# Altium schematic symbol library MS IMP Library.SchLib: 375 symbols (part 7 of 9)
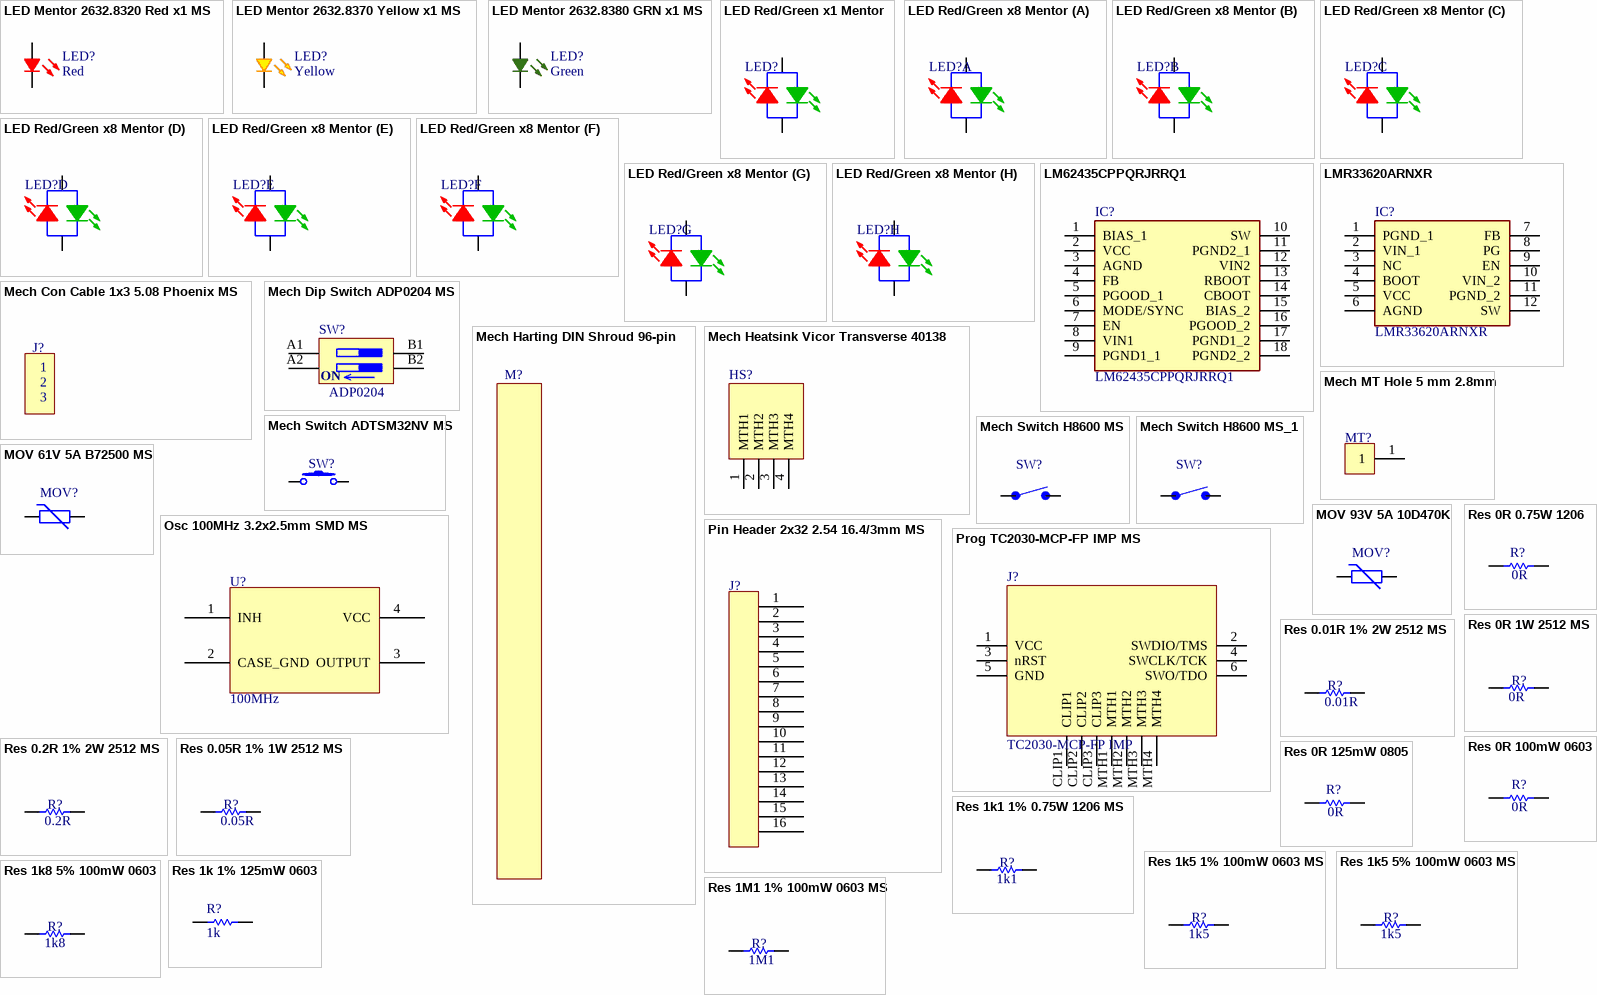
[diagram p28: symbols LED Mentor 2632.8320 Red x1 MS to Res 1M1 1% 100mW 0603 MS]

## Mech Harting DIN Shroud 96-pin
designator M?, comment SHROUD SCREW FIX  (value not drawn)
CONN SHROUD DIN 41612 96POS; Manufacturer: Harting; Manufacturer Part Number: 09030009966; Production Status: Active; Distributor: Mouser; Distributor Part Number: 617-09030009966; Last Revision Date: 22.07.2021; Mounting: Shroud; ComponentLink1Description: Datasheet; ComponentLink1URL: https://b2b.harting.com/files/download/PRD/PDF_TS/0903000996X_100077234DRW002C.pdf?autoLogoutEnabled=false&autoLogoutTime=0&siteName=Ebusiness+Site&showPrivacyEmailAgreement=false&contextURL=https%3A%2F%2Fb2b.harting.com%2Febusiness%2Fen; ComponentLink2Description: Distributor; ComponentLink2URL: https://eu.mouser.com/ProductDetail/HARTING/09030009966?qs=%2Fha2pyFaduhRuGc76G%252Bu3ocXX1sj6hY%2Ff0d6GCPp7gp401P9WS5tKQ%3D%3D; ComponentLink3Description: Manufacturer; ComponentLink3URL: https://b2b.harting.com/ebusiness/en/DIN-Signal-C-R-shroud-screw-fix-6-70/09030009966; Status: Not Checked; DB Parameter 1: 09030009966
footprint HARTING_09030009966

## Mech Heatsink Vicor Transverse 40138
designator HS?, comment Heatsink  (value not drawn)
Heatsink Vicor Transverse 40138; Manufacturer Part Number: 40138; Thermal I/F: Yes; DB Parameter 3: PE tab; Production Status: Active; Distributor: Vicor; Distributor Part Number: 40138; Manufacturer: Vicor; Last Revision Date: 21.04.2021; Mounting: Heatsink; ComponentLink1Description: Datasheet; ComponentLink1URL: http://asp.vicorpower.com/CADPDF/6DDKOI.PDF; ComponentLink2Description: Distributor; ComponentLink2URL: http://www.vicorpower.com/products?productType=cfg&productKey=DCM2322T50T1760T60; ComponentLink3Description: Manufacturer; ComponentLink3URL: http://www.vicorpower.com/products?productType=cfg&productKey=DCM2322T50T1760T60; Status: Not Checked; Fins Direction: Transverse; DB Parameter 1: 40138; DB Parameter 2: Transverse
footprint Heatsink VICOR Tranverse Grounding Tabs Thermal 40138
pins: 1 MTH1, 2 MTH2, 3 MTH3, 4 MTH4

## Mech MT Hole 5 mm 2.8mm
designator MT?, comment MT Hole  (value not drawn)
MT Hole 5 mm 2.8mm; Last Revision Date: 18.07.2022; Mounting: TH; ComponentLink1Description: Datasheet; ComponentLink2Description: Distributor; ComponentLink3Description: Manufacturer
footprint MT_Hole_5mm_2.8mm
pins: 1

## Mech Switch ADTSM32NV MS
designator SW?, comment Tactile Switch  (value not drawn)
Tactile Switch SPST 0.05A 12VDC; Manufacturer: Apem; Manufacturer Part Number: ADTSM32NV; DB Parameter 3: 160gf; Production Status: Active; Distributor: Mouser; Distributor Part Number: 642-ADTSM32NV; Last Revision Date: 08.06.2021; Mounting: SMD; ComponentLink1Description: Datasheet; ComponentLink1URL: https://eu.mouser.com/datasheet/2/26/apem_appms00429_1-1990767.pdf; ComponentLink2Description: Distributor; ComponentLink2URL: https://eu.mouser.com/ProductDetail/Apem/ADTSM32NV/?qs=iGLABakYCr87MRca7foRyA==; ComponentLink3Description: Manufacturer; Status: Not Checked; Rated Current: 0.05A; Rated Voltage: 12VDC; DB Parameter 1: 0.05A; DB Parameter 2: 12VDC; Operating Force: 160gf
footprint ADTSM3 MS
pins: 1, 2

## Mech Switch H8600 MS
designator SW?, comment Switch  (value not drawn)
Rocker Switch 10A 250V; Manufacturer: Bulgin; Manufacturer Part Number: H8600VB01; Production Status: Active; Distributor: Schukat; Distributor Part Number: E2112 H8600VB01; Last Revision Date: 17.03.2021; Mounting: Panel mount; ComponentLink1Description: Datasheet; ComponentLink1URL: https://www.schukat.com/schukat/schukat_cms_en.nsf/index/FrameView?OpenDocument&art=H8600VB01&wg=E2112; ComponentLink2Description: Distributor; ComponentLink2URL: https://www.schukat.com/schukat/schukat_cms_en.nsf/index/CMSDF15D356B046D53BC1256D550038A9E0?OpenDocument&wg=E2112; ComponentLink3Description: Manufacturer; ComponentLink3URL: https://www.schukat.com/schukat/schukat_cms_en.nsf/index/FrameView?OpenDocument&art=H8600VB01&wg=E2112; Status: Not Checked; Rated Current: 10A; Rated Voltage: 250V; DB Parameter 1: 10A; DB Parameter 2: 250V
footprint SWITCH_HOLES
pins: 1, 2

## Mech Switch H8600 MS_1
designator SW?, comment Switch  (value not drawn)
Rocker Switch 10A 250V; Manufacturer: Bulgin; Manufacturer Part Number: H8600VB01; Production Status: Active; Distributor: Schukat; Distributor Part Number: E2112 H8600VB01; Last Revision Date: 17.03.2021; Mounting: Panel mount; ComponentLink1Description: Datasheet; ComponentLink1URL: https://www.schukat.com/schukat/schukat_cms_en.nsf/index/FrameView?OpenDocument&art=H8600VB01&wg=E2112; ComponentLink2Description: Distributor; ComponentLink2URL: https://www.schukat.com/schukat/schukat_cms_en.nsf/index/CMSDF15D356B046D53BC1256D550038A9E0?OpenDocument&wg=E2112; ComponentLink3Description: Manufacturer; ComponentLink3URL: https://www.schukat.com/schukat/schukat_cms_en.nsf/index/FrameView?OpenDocument&art=H8600VB01&wg=E2112; Status: Not Checked; Rated Current: 10A; Rated Voltage: 250V; DB Parameter 1: 10A; DB Parameter 2: 250V
footprint SWITCH_HOLES
pins: 1, 2

## MOV 61V 5A B72500 MS
designator MOV?, comment Varistor  (value not drawn)
VARISTOR 61V 5A 0603; Manufacturer: EPCOS - TDK Electronics; Manufacturer Part Number: B72500E8250L060; Production status: Active; Maximum DC Continuous Voltage: 32V; Distributor: Digi-Key; Distributor Part Number: 495-4605-1-ND; Last Revision Date: 08.07.2021; Temperature Range: -55°C ~ +150°C; Mounting: SMD; ComponentLink1Description: Datasheet; ComponentLink1URL: https://www.tdk-electronics.tdk.com/inf/75/db/CTVS_14/High_speed_series.pdf; ComponentLink2Description: Distributor; ComponentLink2URL: https://www.digikey.com/en/products/detail/epcos-tdk-electronics/B72500E8250L060/3736475; ComponentLink3Description: Manufacturer; ComponentLink3URL: https://www.tdk-electronics.tdk.com/en/529944/products/product-catalog/protection-devices/voltage-protection/ceramic-transient-voltage-suppressors-mlv-varistors-epcos-/search-results-ceramic-transient-voltage-suppressors-mlv-var?so=%7B%22orderingCode%22%3A%22B72500E8250L060%22%7D; Status: Not Checked; Clamping Voltage: 61V; DB Parameter 1: 61V; DB Parameter 2: 5A; Current Class: 5A
footprint C0603L 0.8 MM MS (Chip Capacitor, Body 1.6x0.8mm, IPC High Density)
pins: 1, 2

## MOV 93V 5A 10D470K
designator MOV?, comment Varistor  (value not drawn)
Varistor 93V 5A DISC 10MM; Manufacturer: Bourns Inc.; Manufacturer Part Number: MOV-10D470KTR; Rated Energy: 5.5J; DB Parameter 3: 500A; Production status: Active; Maximum DC Continuous Voltage: 38V; Distributor: Digi-Key; Distributor Part Number: MOV-10D470KTRCT-ND; Last Revision Date: 05.02.2021; Temperature Range: -55°C ~ +105°C; Mounting: TH; ComponentLink1Description: Datasheet; ComponentLink1URL: https://www.bourns.com/docs/Product-Datasheets/MOV10D.pdf; ComponentLink2Description: Distributor; ComponentLink2URL: https://www.digikey.com/en/products/detail/bourns-inc/mov-10d470ktr/2407607; ComponentLink3Description: Manufacturer; ComponentLink3URL: https://www.bourns.com/docs/product-datasheets/mov10d.pdf?sfvrsn=b57e8a7f_26; Status: Not Checked; Clamping Voltage: 93V; DB Parameter 1: 93V; DB Parameter 2: 5A; Max Peak Current 8/20us: 500A; Current Class: 5A
footprint MOV10D470K
pins: 1, 2

## Osc 100MHz 3.2x2.5mm SMD MS
designator U?, comment 100MHz
Clock Oscillator 100MHz SMD; Manufacturer: Kyocera Electronic Components; Manufacturer Part Number: KC3225A100.000C30E00; Supply Voltage: 3.3V; Temperature Coefficient: ±100ppm/°C; Frequency Stability: 50ppm; Production Status: Active; Distributor: Mouser; Distributor Part Number: 581-KC3225A100C30E; Last Revision Date: 01.11.2020; Temperature Range: -10°C ~ +70°C; Mounting: SMD; ComponentLink1Description: Datasheet; ComponentLink1URL: https://eu.mouser.com/datasheet/2/909/kc3225a_c3_e-1771780.pdf; ComponentLink2Description: Distributor; ComponentLink2URL: https://eu.mouser.com/ProductDetail/Kyocera-Electronic-Components/KC3225A100000C30E00?qs=%2Fha2pyFadujxcwsrG%252BwLbcFeWOKdxza2z1CZ8zj9CqGOz41bMRkRIb2jydKHQAcZ; ComponentLink3Description: Manufacturer; ComponentLink3URL: https://global.kyocera.com/prdct/electro/product/pdf/kc3225a_c3_e.pdf; Status: Not Checked; DB Parameter 1: 100MHz; DB Parameter 2: 3.3V; DB Parameter 3: 50ppm; Frequency: 100MHz
footprint KC3225A MS
pins: 1 INH, 2 CASE_GND, 3 OUTPUT, 4 VCC

## Pin Header 2x32 2.54 16.4/3mm MS
designator J?, comment Header Male TH 2x32  (value not drawn)
Pin Header 2x32 2.54 16.4/3mm; Manufacturer: Fischer Elektronik; Manufacturer Part Number: SL 22 164 64 G0878321420; Rated Current: 2A; DB Parameter 1: SL 22 164 64 G; DB Parameter 2: 3A; Production Status: Active; Distributor: Fischer Elektronik; Distributor Part Number: SL 22 164 64 G; Last Revision Date: 26.11.2020.; Temperature Range: -40°C ~ +163°C; Mounting: TH; ComponentLink1Description: Datasheet; ComponentLink1URL: https://www.fischerelektronik.de/web_fischer/en_GB/connectors/G01/Male%20headers/PR/SL%2022%20164/index.xhtml; ComponentLink2Description: Distributor; ComponentLink2URL: https://www.fischerelektronik.de/web_fischer/en_GB/connectors/G01/Male%20headers/PR/SL%2022%20164/index.xhtml; ComponentLink3Description: Manufacturer; ComponentLink3URL: https://www.fischerelektronik.de/web_fischer/en_GB/connectors/G01/Male%20headers/PR/SL%2022%20164/index.xhtml; Status: Not Checked
footprint MOLEX_0878321420
pins: 1, 2, 3, 4, 5, 6, 7, 8, 9, 10, 11, 12, 13, 14, 15, 16

## Prog TC2030-MCP-FP IMP MS
designator J?, comment TC2030-MCP-FP IMP
PCB DECAL: TC2030-MCP-FP
footprint TC2030-MCP-FP MS
pins: 1 VCC, 2 SWDIO/TMS, 3 nRST, 4 SWCLK/TCK, 5 GND, 6 SWO/TDO, CLIP1, CLIP2, CLIP3, MTH1, MTH2, MTH3, MTH4

## Res 0.01R 1% 2W 2512 MS
designator R?, comment Resistance: 0.01R  (hidden comment: Resistor)
Resistor 0.01R 1% 2W 2512; Manufacturer: Yageo; Manufacturer Part Number: PE2512FKF7W0R01L; Temperature Coefficient: ±100ppm/°C; Production Status: Active; Distributor: Digi-Key; Distributor Part Number: YAG6033CT-ND; Last Revision Date: 25.03.2021; Temperature Range: -55°C ~ +170°C; Mounting: SMD; ComponentLink1Description: Datasheet; ComponentLink1URL: https://www.yageo.com/upload/media/product/productsearch/datasheet/rchip/PYu-PE_521_RoHS_L_8.pdf; ComponentLink2Description: Distributor; ComponentLink2URL: https://www.digikey.com/en/products/detail/yageo/PE2512FKF7W0R01L/5914917; ComponentLink3Description: Manufacturer; ComponentLink3URL: https://www.yageo.com/en/ProductSearch/PartNumberSearch?part_number=PE2512FKF7W0R01L; Status: Not Checked; Power Rating: 2W; Tolerance: ±1%; DB Parameter 1: 0.01R; DB Parameter 2: ±1%; DB Parameter 3: 2W
footprint 2512 R 0.7mm MS
pins: 1, 2

## Res 0.2R 1% 2W 2512 MS
designator R?, comment Resistance: 0.2R  (hidden comment: Resistor)
Resistor 0.2R 1% 2W 2512; Manufacturer: Vishay Dale; Manufacturer Part Number: RCWE2512R200FKEA; Temperature Coefficient: ±100ppm/°C; Production Status: Active; Distributor: Digi-Key; Distributor Part Number: 541-4398-1-ND; Last Revision Date: 14.09.2021; Temperature Range: -55°C ~ +155°C; Mounting: SMD; ComponentLink1Description: Datasheet; ComponentLink1URL: https://www.vishay.com/docs/20019/rcwe.pdf; ComponentLink2Description: Distributor; ComponentLink2URL: https://www.digikey.com/en/products/detail/vishay-dale/RCWE2512R200FKEA/5767489; ComponentLink3Description: Manufacturer; ComponentLink3URL: https://www.vishay.com/docs/20019/rcwe.pdf; Status: Not Checked; Power Rating: 2W; Tolerance: ±1%; DB Parameter 1: 0.2R; DB Parameter 2: ±1%; DB Parameter 3: 2W
footprint 2512 R 0.7mm MS
pins: 1, 2

## Res 0.05R 1% 1W 2512 MS
designator R?, comment Resistance: 0.05R  (hidden comment: Resistor)
Resistor 0.05R 1% 1W 2512; Manufacturer: Yageo; Manufacturer Part Number: RL2512FK-070R05L; Temperature Coefficient: ±800ppm/°C; Production Status: Active; Distributor: Digi-Key; Distributor Part Number: 311-0.05TCT-ND; Last Revision Date: 17.03.2021; Temperature Range: -55°C ~ +155°C; Mounting: SMD; ComponentLink1Description: Datasheet; ComponentLink1URL: https://www.yageo.com/upload/media/product/productsearch/datasheet/rchip/PYu-RL_Group_521_RoHS_L_2.pdf; ComponentLink2Description: Distributor; ComponentLink2URL: https://www.digikey.com/en/products/detail/yageo/RL2512FK-070R05L/3885862?s=N4IgTCBcDaIEoBkwFYCMYBiBpAtABgHY849kEQBdAXyA; ComponentLink3Description: Manufacturer; ComponentLink3URL: https://www.yageo.com/en/ProductSearch/PartNumberSearch?part_number=RL2512FK-070R05L; Status: Not Checked; Power Rating: 1W; Tolerance: ±1%; DB Parameter 1: 0.05R; DB Parameter 2: ±1%; DB Parameter 3: 1W
footprint 2512 R 0.7mm MS
pins: 1, 2

## Res 0R 0.75W 1206
designator R?, comment Resistance: 0R  (hidden comment: Resistor)
Resistor 0R 0.75W 1206; Manufacturer: Vishay Dale; Manufacturer Part Number: CRCW12060000Z0EAHP; DB Parameter 2: 10A; Production Status: Active; Distributor: Digi-Key; Distributor Part Number: 541-0.0UBCT-ND; Last Revision Date: 26.03.2021; Temperature Range: -55°C ~ +155°C; Mounting: SMD; ComponentLink1Description: Datasheet; ComponentLink1URL: https://www.vishay.com/docs/20043/crcwhpe3.pdf; ComponentLink2Description: Distributor; ComponentLink2URL: https://www.digikey.com/en/products/detail/vishay-dale/CRCW12060000Z0EAHP/2222404; ComponentLink3Description: Manufacturer; ComponentLink3URL: https://www.vishay.com/docs/20043/crcwhpe3.pdf; Status: Not Checked; Power Rating: 0.75W; DB Parameter 1: 0R; DB Parameter 3: 0.75W; Maximum Current: 10A
footprint 1206 R 0.6mm MS (Ceramic Capacitor 1206 0.6mm)
pins: 1, 2

## Res 0R 1W 2512 MS
designator R?, comment Resistance: 0R  (hidden comment: Resistor)
Resistor 0R 1W 2512; Manufacturer: Bourns Inc.; Manufacturer Part Number: CR2512-J/-000ELF; DB Parameter 2: 2A; Production Status: Active; Maximum Current: 5A; Distributor: Digi-Key; Distributor Part Number: CR2512-J/-000ELFCT-ND; Last Revision Date: 02.04.2021; Temperature Range: -55°C ~ +155°C; Mounting: SMD; ComponentLink1Description: Datasheet; ComponentLink1URL: https://www.bourns.com/docs/product-datasheets/CRxxxxx.pdf; ComponentLink2Description: Distributor; ComponentLink2URL: https://www.digikey.com/en/products/detail/bourns-inc/CR2512-J-000ELF/2345096; ComponentLink3Description: Manufacturer; ComponentLink3URL: https://www.bourns.com/docs/product-datasheets/CRxxxxx.pdf; Status: Not Checked; Power Rating: 1W; DB Parameter 1: 0R; DB Parameter 3: 1W; Rated Current: 2A
footprint 2512 R 0.7mm MS
pins: 1, 2

## Res 0R 100mW 0603
designator R?, comment Resistance: 0R  (hidden comment: Resistor)
Resistor  0R 100mW 0603; Manufacturer: Stackpole Electronics Inc; Manufacturer Part Number: RMCF0603ZT0R00; DB Parameter 2: 1A; Production Status: Active; Maximum Current: 2A; Distributor: Digi-Key; Distributor Part Number: RMCF0603ZT0R00CT-ND; Last Revision Date: 20.10.2020.; Temperature Range: -55°C ~ +155°C; Mounting: SMD; ComponentLink1Description: Datasheet; ComponentLink1URL: https://www.seielect.com/catalog/sei-rmcf_rmcp.pdf; ComponentLink2Description: Distributor; ComponentLink2URL: https://www.digikey.com/en/products/detail/stackpole-electronics-inc/RMCF0603ZT0R00/1756908; ComponentLink3Description: Manufacturer; ComponentLink3URL: https://www.seielect.com/; Status: Not Checked; Power Rating: 100mW; DB Parameter 1: 0R; DB Parameter 3: 100mW; Rated Current: 1A
footprint R0603L 0.45MM MS (Chip Resistor, Body 1.6x0.8mm, IPC High Density)
pins: 1, 2

## Res 0R 125mW 0805
designator R?, comment Resistance: 0R  (hidden comment: Resistor)
Resistor  0R 125mW 0805; Manufacturer: Yageo; Manufacturer Part Number: RC0805JR-070RL; DB Parameter 2: 2A; Production Status: Active; Maximum Current: 5A; Distributor: Digi-Key; Distributor Part Number: 311-0.0ARCT-ND; Last Revision Date: 19.10.2020.; Temperature Range: -55°C ~ +155°C; Mounting: SMD; ComponentLink1Description: Datasheet; ComponentLink1URL: https://www.yageo.com/upload/media/product/productsearch/datasheet/rchip/PYu-RC_Group_51_RoHS_L_11.pdf; ComponentLink2Description: Distributor; ComponentLink2URL: https://www.digikey.com/en/products/detail/yageo/RC0805JR-070RL/731163; ComponentLink3Description: Manufacturer; ComponentLink3URL: https://www.yageo.com/en/ProductSearch/PartNumberSearch?part_number=RC0805JR-070RL; Status: Not Checked; Power Rating: 125mW; DB Parameter 1: 0R; DB Parameter 3: 125mW; Rated Current: 2A
footprint 0805 R 0.5mm MS (Resistor 0805 0.5mm)
pins: 1, 2

## Res 1k1 1% 0.75W 1206 MS
designator R?, comment Resistance: 1k1  (hidden comment: Resistor)
Resistor 1k1 1% 0.75W 1206; Manufacturer: Vishay Dale; Manufacturer Part Number: CRCW12061K10FKEAHP; Temperature Coefficient: ±100ppm/°C; Production Status: Active; Distributor: Digi-Key; Distributor Part Number: CRCW12061K10FKEAHPCT-ND; Last Revision Date: 17.06.2021; Temperature Range: -55°C ~ +155°C; Mounting: SMD; ComponentLink1Description: Datasheet; ComponentLink1URL: https://www.vishay.com/docs/20043/crcwhpe3.pdf; ComponentLink2Description: Distributor; ComponentLink2URL: https://www.digikey.com/en/products/detail/vishay-dale/CRCW12061K10FKEAHP/2227755; ComponentLink3Description: Manufacturer; ComponentLink3URL: https://www.vishay.com/docs/20043/crcwhpe3.pdf; Status: Not Checked; Power Rating: 0.75W; Tolerance: ±1%; DB Parameter 1: 1k1; DB Parameter 2: ±1%; DB Parameter 3: 0.75W
footprint 1206 R 0.6mm MS (Ceramic Capacitor 1206 0.55mm)
pins: 1, 2

## Res 1k5 1% 100mW 0603 MS
designator R?, comment Resistance: 1k5  (hidden comment: Resistor)
Resistor 1k5 1% 100mW 0603; Manufacturer: Vishay Dale; Manufacturer Part Number: CRCW06031K50FKEAC; Temperature Coefficient: ±100ppm/°C; Production Status: Active; Distributor: Digi-Key; Distributor Part Number: 541-4020-1-ND; Last Revision Date: 26.07.2021; Temperature Range: -55°C ~ +155°C; Mounting: SMD; ComponentLink1Description: Datasheet; ComponentLink1URL: https://www.vishay.com/docs/28773/crcwce3.pdf; ComponentLink2Description: Distributor; ComponentLink2URL: https://www.digikey.com/en/products/detail/vishay-dale/CRCW06031K50FKEAC/7928442; ComponentLink3Description: Manufacturer; ComponentLink3URL: https://www.vishay.com/docs/28773/crcwce3.pdf; Status: Not Checked; Power Rating: 100mW; Tolerance: ±1%; DB Parameter 1: 1k5; DB Parameter 2: ±1%; DB Parameter 3: 100mW
footprint R0603L 0.45MM MS (Chip Resistor, Body 1.6x0.8mm, IPC High Density)
pins: 1, 2

## Res 1k5 5% 100mW 0603 MS
designator R?, comment Resistance: 1k5  (hidden comment: Resistor)
Resistor 1k5 5% 100mW 0603; Manufacturer: Vishay Dale; Manufacturer Part Number: CRCW06031K50FKEB; Temperature Coefficient: ±100ppm/°C; Tolerance: ±1%; Production Status: Active; Distributor: Digi-Key; Distributor Part Number: 541-CRCW06031K50FKEBCT-ND; Last Revision Date: 17.03.2021; Temperature Range: -55°C ~ +155°C; Mounting: SMD; ComponentLink1Description: Datasheet; ComponentLink1URL: https://www.vishay.com/docs/20035/dcrcwe3.pdf; ComponentLink2Description: Distributor; ComponentLink2URL: https://www.digikey.com/en/products/detail/vishay-dale/CRCW06031K50FKEB/5071254; ComponentLink3Description: Manufacturer; ComponentLink3URL: https://www.vishay.com/docs/20035/dcrcwe3.pdf; Status: Not Checked; Power Rating: 100mW; DB Parameter 1: 1k5; DB Parameter 2: ±1%; DB Parameter 3: 100mW
footprint R0603L 0.45MM MS (Chip Resistor, Body 1.6x0.8mm, IPC High Density)
pins: 1, 2

## Res 1k8 5% 100mW 0603
designator R?, comment Resistance: 1k8  (hidden comment: Resistor)
Resistor 1k8 5% 100mW 0603; Manufacturer: Stackpole Electronics Inc; Manufacturer Part Number: RMCF0603JT1K80; Temperature Coefficient: ±100ppm/°C; Production Status: Active; Distributor: Digi-Key; Distributor Part Number: RMCF0603JT1K80CT-ND; Last Revision Date: 02.11.2020.; Temperature Range: -55°C ~ +155°C; Mounting: SMD; ComponentLink1Description: Datasheet; ComponentLink1URL: https://www.seielect.com/catalog/sei-rmcf_rmcp.pdf; ComponentLink2Description: Distributor; ComponentLink2URL: https://www.digikey.com/en/products/detail/stackpole-electronics-inc/RMCF0603JT1K80/1758097; ComponentLink3Description: Manufacturer; ComponentLink3URL: https://seielect.com/search/default.asp?searchKey=RMCF0603JT1K80; Status: Not Checked; Power Rating: 100mW; Tolerance: ±5%; DB Parameter 1: 1k8; DB Parameter 2: ±5%; DB Parameter 3: 100mW
footprint R0603L 0.45MM MS (Chip Resistor, Body 1.6x0.8mm, IPC High Density)
pins: 1, 2

## Res 1k 1% 125mW 0603
designator R?, comment Resistance: 1k  (hidden comment: Resistor)
Resistor 1k 1% 125mW 0603; Manufacturer: Vishay Beyschlag/Draloric/BC Components; Manufacturer Part Number: MCT06030C1001FP500; Temperature Coefficient: ±50 PPM/°C; Production Status: Active; Distributor: Digi-Key; Distributor Part Number: MCT0603-1.00K-CFCT-ND; Last Revision Date: 22.10.2020.; Temperature Range: -55°C ~ +155°C; Mounting: SMD; ComponentLink1Description: Datasheet; ComponentLink1URL: https://www.vishay.com/docs/28705/mcx0x0xpro.pdf; ComponentLink2Description: Distributor; ComponentLink2URL: https://www.digikey.com/en/products/detail/vishay-beyschlag-draloric-bc-components/MCT06030C1001FP500/2607821; ComponentLink3Description: Manufacturer; ComponentLink3URL: https://www.vishay.com/search?query=MCT06030C1001FP500&searchChoice=part; Status: Not Checked; Power Rating: 125mW; Tolerance: ±1%; DB Parameter 2: ±1%; DB Parameter 3: 125mW; DB Parameter 1: 1k
footprint R0603L 0.45MM MS (Chip Resistor, Body 1.6x0.8mm, IPC High Density)
pins: 1, 2

## Res 1M1 1% 100mW 0603 MS
designator R?, comment Resistance: 1M1  (hidden comment: Resistor)
Resistor 1M1 1% 100mW 0603; Manufacturer: KOA Speer; Manufacturer Part Number: RK73H1JTTD1104F; Temperature Coefficient: ±100ppm/°C; Production Status: Active; Distributor: Mouser; Distributor Part Number: 660-RK73H1JTTD1104F; Last Revision Date: 16.08.2022; Temperature Range: -55°C ~ +155°C; Mounting: SMD; ComponentLink1Description: Datasheet; ComponentLink1URL: https://eu.mouser.com/datasheet/2/219/RK73H-1825326.pdf; ComponentLink2Description: Distributor; ComponentLink2URL: https://eu.mouser.com/ProductDetail/KOA-Speer/RK73H1JTTD1104F?qs=S8PGTRoNb5h%252BxPGEnn8Prw%3D%3D; ComponentLink3Description: Manufacturer; ComponentLink3URL: https://eu.mouser.com/datasheet/2/219/RK73H-1825326.pdf; Status: Not Checked; Power Rating: 100mW; Tolerance: ±1%; DB Parameter 1: 1M1; DB Parameter 2: ±1%; DB Parameter 3: 100mW
footprint R0603L 0.45MM MS (Chip Resistor, Body 1.6x0.8mm, IPC High Density)
pins: 1, 2

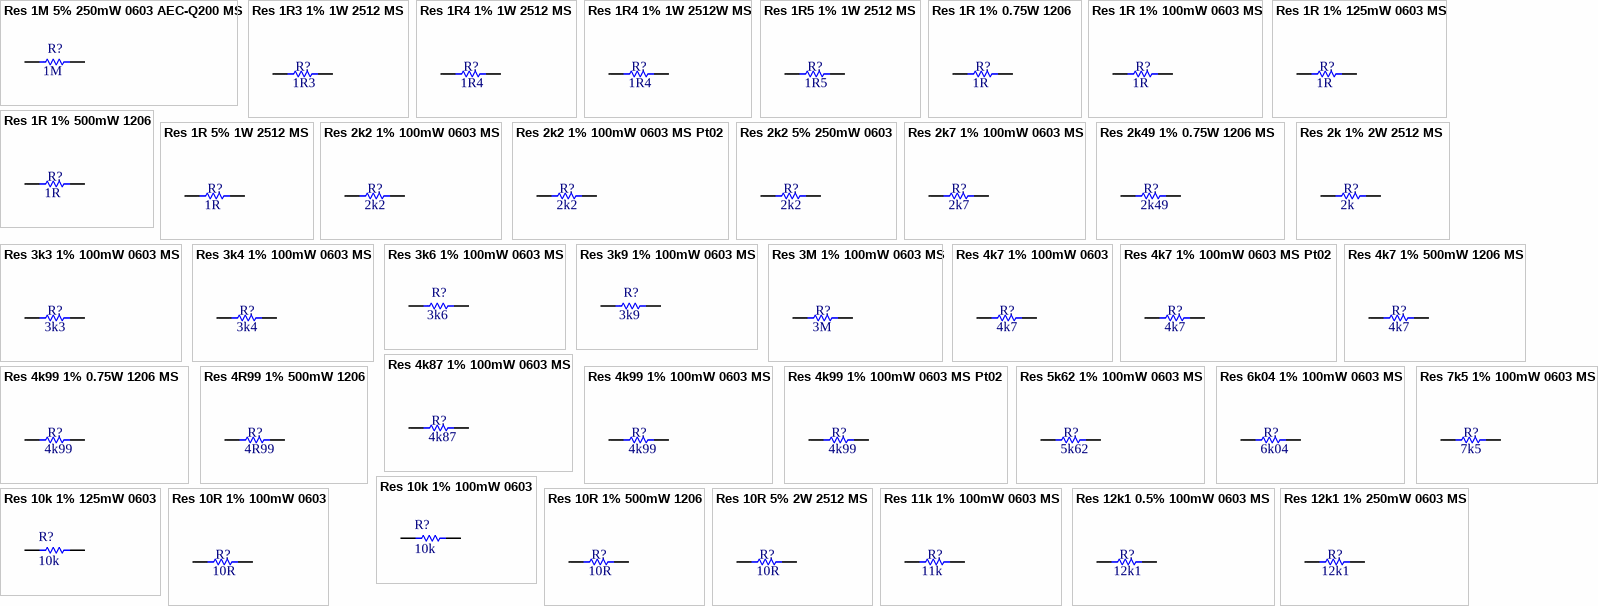
[diagram p20: symbols Res 1M 5% 250mW 0603 AEC-Q200 MS to Res 12k1 1% 250mW 0603 MS]

## Res 1M 5% 250mW 0603 AEC-Q200 MS
designator R?, comment Resistance: 1M  (hidden comment: Resistor)
Resistor 1M 5% 250mW 0603 AEC-Q200; Manufacturer: Rohm Semiconductor; Manufacturer Part Number: ESR03EZPJ105; Temperature Coefficient: ±200 PPM/°C; Production Status: Active; Distributor: Digi-Key; Distributor Part Number: RHM1MDCT-ND; Last Revision Date: 14.09.2021; Temperature Range: -55°C ~ +125°C; Mounting: SMD; ComponentLink1Description: Datasheet; ComponentLink1URL: https://fscdn.rohm.com/en/products/databook/datasheet/passive/resistor/chip_resistor/esr-e.pdf; ComponentLink2Description: Distributor; ComponentLink2URL: https://www.digikey.com/en/products/detail/rohm-semiconductor/ESR03EZPJ105/4051181; ComponentLink3Description: Manufacturer; ComponentLink3URL: https://www.rohm.com/products/resistors/high-reliability-resistors/anti-surge-chip-resistors/esr03ezpj-product; Status: Not Checked; Power Rating: 250mW; Tolerance: ±5%; DB Parameter 1: 1M; DB Parameter 2: 250mW; DB Parameter 3: ±5%
footprint R0603L 0.45MM MS (Chip Resistor, Body 1.6x0.8mm, IPC High Density)
pins: 1, 2

## Res 1R3 1% 1W 2512 MS
designator R?, comment Resistance: 1R3  (hidden comment: Resistor)
Resistor 1R3 1% 1W 2512; Manufacturer: Vishay Dale; Manufacturer Part Number: CRCW25121R30JNEG; Temperature Coefficient: ±200ppm/°C; Tolerance: ±5%; Production Status: Active; Distributor: Digi-Key; Distributor Part Number: 541-1.3XCT-ND; Last Revision Date: 12.03.2021; Temperature Range: -55°C ~ +155°C; Mounting: SMD; ComponentLink1Description: Datasheet; ComponentLink1URL: https://www.vishay.com/docs/20035/dcrcwe3.pdf; ComponentLink2Description: Distributor; ComponentLink2URL: https://www.digikey.com/en/products/detail/vishay-dale/CRCW25121R30JNEG/1173372; ComponentLink3Description: Manufacturer; ComponentLink3URL: https://www.vishay.com/docs/20035/dcrcwe3.pdf; Status: Not Checked; Power Rating: 1W; DB Parameter 1: 1R3; DB Parameter 2: ±5%; DB Parameter 3: 1W
footprint 2512 R 0.7mm MS
pins: 1, 2

## Res 1R4 1% 1W 2512 MS
designator R?, comment Resistance: 1R4  (hidden comment: Resistor)
Resistor 1R4 1% 1W 2512; Manufacturer: Yageo; Manufacturer Part Number: AC2512FK-071K4L; Temperature Coefficient: ±100ppm/°C; Production Status: Active; Distributor: Mouser; Distributor Part Number: 603-AC2512FK-071K4L; Last Revision Date: 14.10.2021; Temperature Range: -55°C ~ +155°C; Mounting: SMD; ComponentLink1Description: Datasheet; ComponentLink1URL: https://www.yageo.com/upload/media/product/productsearch/datasheet/rchip/PYu-AC_51_RoHS_L_8.pdf; ComponentLink2Description: Distributor; ComponentLink2URL: https://eu.mouser.com/ProductDetail/YAGEO/AC2512FK-071K4L?qs=sGAEpiMZZMtlubZbdhIBIKyAF7UHeJ2ZcIYwMD%2Fdr%252B0%3D; ComponentLink3Description: Manufacturer; ComponentLink3URL: https://www.yageo.com/en/ProductSearch/PartNumberSearch?part_number=AC2512FK-071K4L; Status: Not Checked; Power Rating: 1W; Tolerance: ±1%; DB Parameter 1: 1R4; DB Parameter 2: ±1%; DB Parameter 3: 1W
footprint 2512 R 0.7mm MS
pins: 1, 2

## Res 1R4 1% 1W 2512W MS
designator R?, comment Resistance: 1R4  (hidden comment: Resistor)
Resistor 1R4 1% 1W 2512W; Manufacturer: Vishay Dale; Manufacturer Part Number: RCL12251R40FKEG; Power Rating: 2W; Temperature Coefficient: ±100ppm/°C; Production Status: Active; Distributor: Digi-Key; Distributor Part Number: 541-2442-1-ND; Last Revision Date: 13.10.2021; Temperature Range: -55°C ~ +155°C; Mounting: SMD; ComponentLink1Description: Datasheet; ComponentLink1URL: https://www.vishay.com/docs/20046/rcle3.pdf; ComponentLink2Description: Distributor; ComponentLink2URL: https://www.digikey.com/en/products/detail/vishay-dale/RCL12251R40FKEG/3029580; ComponentLink3Description: Manufacturer; ComponentLink3URL: https://www.vishay.com/docs/20046/rcle3.pdf; Status: Not Checked; Tolerance: ±1%; DB Parameter 1: 1R4; DB Parameter 2: ±1%; DB Parameter 3: 2W
footprint 2512 R 0.7mm Wide MS
pins: 1, 2

## Res 1R5 1% 1W 2512 MS
designator R?, comment Resistance: 1R5  (hidden comment: Resistor)
Resistor 1R5 1% 1W 2512; Manufacturer: Vishay Dale; Manufacturer Part Number: CRCW25121R50JNEG; Temperature Coefficient: ±200ppm/°C; Tolerance: ±5%; Production Status: Active; Distributor: Digi-Key; Distributor Part Number: 541-1.5XCT-ND; Last Revision Date: 12.03.2021; Temperature Range: -55°C ~ +155°C; Mounting: SMD; ComponentLink1Description: Datasheet; ComponentLink1URL: https://www.vishay.com/docs/20065/rcse3.pdf; ComponentLink2Description: Distributor; ComponentLink2URL: https://www.digikey.com/en/products/detail/vishay-dale/CRCW25121R50JNEG/1173373; ComponentLink3Description: Manufacturer; ComponentLink3URL: https://www.vishay.com/docs/20065/rcse3.pdf; Status: Not Checked; Power Rating: 1W; DB Parameter 1: 1R5; DB Parameter 2: ±5%; DB Parameter 3: 1W
footprint 2512 R 0.7mm MS
pins: 1, 2

## Res 1R 1% 0.75W 1206
designator R?, comment Resistance: 1R  (hidden comment: Resistor)
Resistor 1R 1% 0.75W 1206; Manufacturer: Vishay Dale; Manufacturer Part Number: CRCW12061R00FKEAHP; Temperature Coefficient: ±100ppm/°C; Production Status: Active; Distributor: Digi-Key; Distributor Part Number: 541-1.00UCT-ND; Last Revision Date: 26.03.2021; Temperature Range: -55°C ~ +155°C; Mounting: SMD; ComponentLink1Description: Datasheet; ComponentLink1URL: https://www.vishay.com/docs/20043/crcwhpe3.pdf; ComponentLink2Description: Distributor; ComponentLink2URL: https://www.digikey.com/en/products/detail/vishay-dale/CRCW12061R00FKEAHP/2222406; ComponentLink3Description: Manufacturer; ComponentLink3URL: https://www.vishay.com/docs/20043/crcwhpe3.pdf; Status: Not Checked; Power Rating: 0.75W; Tolerance: ±1%; DB Parameter 1: 1R; DB Parameter 2: ±1%; DB Parameter 3: 0.75W
footprint 1206 R 0.6mm MS (Ceramic Capacitor 1206 0.55mm)
pins: 1, 2

## Res 1R 1% 100mW 0603 MS
designator R?, comment Resistance: 1R  (hidden comment: Resistor)
Resistor 1R 1% 100mW 0603; Manufacturer: Stackpole Electronics Inc; Manufacturer Part Number: RC0603FR-071RL; Temperature Coefficient: ±200ppm/°C; Production Status: Active; Distributor: Digi-Key; Distributor Part Number: 311-1.00HRCT-ND; Last Revision Date: 26.07.2021; Temperature Range: -55°C ~ +155°C; Mounting: SMD; ComponentLink1Description: Datasheet; ComponentLink1URL: https://www.yageo.com/upload/media/product/productsearch/datasheet/rchip/PYu-RC_Group_51_RoHS_L_11.pdf; ComponentLink2Description: Distributor; ComponentLink2URL: https://www.digikey.com/en/products/detail/yageo/RC0603FR-071RL/726842; ComponentLink3Description: Manufacturer; ComponentLink3URL: https://www.yageo.com/en/ProductSearch/PartNumberSearch?part_number=RC0603FR-071RL; Status: Not Checked; Power Rating: 100mW; Tolerance: ±1%; DB Parameter 1: 1R; DB Parameter 2: ±1%; DB Parameter 3: 100mW
footprint R0603L 0.45MM MS (Chip Resistor, Body 1.6x0.8mm, IPC High Density)
pins: 1, 2

## Res 1R 1% 125mW 0603 MS
designator R?, comment Resistance: 1R  (hidden comment: Resistor)
Resistor 1R 1% 125mW 0603; Manufacturer: Stackpole Electronics Inc; Manufacturer Part Number: RNCP0603FTD1R00; Temperature Coefficient: ±100ppm/°C; Production Status: Active; Distributor: Digi-Key; Distributor Part Number: RNCP0603FTD1R00CT-ND; Last Revision Date: 20.04.2021; Temperature Range: -55°C ~ +155°C; Mounting: SMD; ComponentLink1Description: Datasheet; ComponentLink1URL: https://www.seielect.com/catalog/sei-rncp.pdf; ComponentLink2Description: Distributor; ComponentLink2URL: https://www.digikey.com/en/products/detail/stackpole-electronics-inc/RNCP0603FTD1R00/2240072; ComponentLink3Description: Manufacturer; ComponentLink3URL: https://www.seielect.com/catalog/sei-rncp.pdf; Status: Not Checked; Power Rating: 125mW; Tolerance: ±1%; DB Parameter 1: 1R; DB Parameter 2: ±1%; DB Parameter 3: 125mW
footprint R0603L 0.45MM MS (Chip Resistor, Body 1.6x0.8mm, IPC High Density)
pins: 1, 2

## Res 1R 1% 500mW 1206
designator R?, comment Resistance: 1R  (hidden comment: Resistor)
Resistor 1R 1% 500mW 1206; Manufacturer: Stackpole Electronics Inc; Manufacturer Part Number: RMCF0603JT1K80; Temperature Coefficient: ±100ppm/°C; Production Status: Active; Distributor: Digi-Key; Distributor Part Number: RNCP1206FTD1R00CT-ND; Last Revision Date: 11.03.2021; Temperature Range: -55°C ~ +155°C; Mounting: SMD; ComponentLink1Description: Datasheet; ComponentLink1URL: https://www.seielect.com/Catalog/SEI-RNCP.pdf; ComponentLink2Description: Distributor; ComponentLink2URL: https://www.digikey.com/en/products/detail/stackpole-electronics-inc/RNCP1206FTD1R00/2240302; ComponentLink3Description: Manufacturer; ComponentLink3URL: https://www.seielect.com/Catalog/SEI-RNCP.pdf; Status: Not Checked; Power Rating: 500mW; Tolerance: ±1%; DB Parameter 1: 1R; DB Parameter 2: ±1%; DB Parameter 3: 500mW
footprint 1206 R 0.6mm MS (Ceramic Capacitor 1206 0.55mm)
pins: 1, 2

## Res 1R 5% 1W 2512 MS
designator R?, comment Resistance: 1R  (hidden comment: Resistor)
Resistor 1R 5% 1W 2512; Manufacturer: KOA Speer Electronics, Inc.; Manufacturer Part Number: SR733ATTE1R00F; Temperature Coefficient: ±100ppm/°C; Production Status: Active; Distributor: Digi-Key; Distributor Part Number: 2019-SR733ATTE1R00FCT-ND; Last Revision Date: 26.07.2021; Temperature Range: -55°C ~ +150°C; Mounting: SMD; ComponentLink1Description: Datasheet; ComponentLink1URL: https://www.koaspeer.com/pdfs/SR73.pdf; ComponentLink2Description: Distributor; ComponentLink2URL: https://www.digikey.com/en/products/detail/koa-speer-electronics-inc/SR733ATTE1R00F/9845653; ComponentLink3Description: Manufacturer; ComponentLink3URL: https://www.koaspeer.com/pdfs/SR73.pdf; Status: Not Checked; Power Rating: 1W; Tolerance: ±5%; DB Parameter 1: 1R; DB Parameter 2: ±5%; DB Parameter 3: 1W
footprint 2512 R 0.7mm MS
pins: 1, 2

## Res 2k2 1% 100mW 0603 MS
designator R?, comment Resistance: 2k2  (hidden comment: Resistor)
Resistor 2k2 1% 100mW 0603; Manufacturer: Stackpole Electronics Inc; Manufacturer Part Number: RMCF0603FT2K20; Temperature Coefficient: ±100ppm/°C; Production Status: Active; Distributor: Digi-Key; Distributor Part Number: RMCF0603FT2K20CT-ND; Last Revision Date: 12.07.2021; Temperature Range: -55°C ~ +155°C; Mounting: SMD; ComponentLink1Description: Datasheet; ComponentLink1URL: https://www.seielect.com/catalog/sei-packaging.pdf; ComponentLink2Description: Distributor; ComponentLink2URL: https://www.digikey.com/en/products/detail/stackpole-electronics-inc/RMCF0603FT2K20/1760987; ComponentLink3Description: Manufacturer; ComponentLink3URL: https://www.seielect.com/catalog/sei-packaging.pdf; Status: Not Checked; Power Rating: 100mW; Tolerance: ±1%; DB Parameter 1: 2k2; DB Parameter 2: ±1%; DB Parameter 3: 100mW
footprint R0603L 0.45MM MS (Chip Resistor, Body 1.6x0.8mm, IPC High Density)
pins: 1, 2

## Res 2k2 1% 100mW 0603 MS Pt02
designator R?, comment Resistance: 2k2  (hidden comment: Resistor)
Resistor 2k2 1% 100mW 0603; Manufacturer: Yageo; Manufacturer Part Number: RC0603FR-072K2L; Temperature Coefficient: ±100ppm/°C; Production Status: Active; Distributor: Digi-Key; Distributor Part Number: 311-2.20KHRCT-ND; Last Revision Date: 30.07.2021; Temperature Range: -55°C ~ +155°C; Mounting: SMD; ComponentLink1Description: Datasheet; ComponentLink1URL: https://www.yageo.com/upload/media/product/productsearch/datasheet/rchip/PYu-RC_Group_51_RoHS_L_11.pdf; ComponentLink2Description: Distributor; ComponentLink2URL: https://www.digikey.com/en/products/detail/yageo/RC0603FR-072K2L/727016; ComponentLink3Description: Manufacturer; ComponentLink3URL: https://www.yageo.com/en/ProductSearch/PartNumberSearch?part_number=RC0603FR-072K2L; Status: Not Checked; Power Rating: 100mW; Tolerance: ±1%; DB Parameter 1: 2k2; DB Parameter 2: ±1%; DB Parameter 3: 100mW
footprint R0603L 0.45MM MS (Chip Resistor, Body 1.6x0.8mm, IPC High Density)
pins: 1, 2

## Res 2k2 5% 250mW 0603
designator R?, comment Resistance: 2k2  (hidden comment: Resistor)
Resistor 2k2 5% 250mW 0603; Manufacturer: Rohm Semiconductor; Manufacturer Part Number: ESR03EZPJ222; Temperature Coefficient: ±200ppm/°C; Production Status: Active; Distributor: Digi-Key; Distributor Part Number: RHM2.2KDCT-ND; Last Revision Date: 29.03.2021; Temperature Range: -55°C ~ +155°C; Mounting: SMD; ComponentLink1Description: Datasheet; ComponentLink1URL: https://fscdn.rohm.com/en/products/databook/datasheet/passive/resistor/chip_resistor/esr-e.pdf; ComponentLink2Description: Distributor; ComponentLink2URL: https://www.digikey.com/en/products/detail/rohm-semiconductor/ESR03EZPJ222/1762726; ComponentLink3Description: Manufacturer; ComponentLink3URL: https://www.rohm.com/products/resistors/high-reliability-resistors/anti-surge-chip-resistors/esr03ezpj-product; Status: Not Checked; Power Rating: 250mW; Tolerance: ±5%; DB Parameter 1: 2k2; DB Parameter 2: ±5%; DB Parameter 3: 250mW
footprint R0603L 0.45MM MS (Chip Resistor, Body 1.6x0.8mm, IPC High Density)
pins: 1, 2

## Res 2k7 1% 100mW 0603 MS
designator R?, comment Resistance: 2k7  (hidden comment: Resistor)
Resistor 2k7 1% 100mW 0603; Manufacturer: Yageo; Manufacturer Part Number: RC0603FR-072K7L; Temperature Coefficient: ±100ppm/°C; Production Status: Active; Distributor: Digi-Key; Distributor Part Number: 311-2.70KHRCT-ND; Last Revision Date: 17.08.2021; Temperature Range: -55°C ~ +155°C; Mounting: SMD; ComponentLink1Description: Datasheet; ComponentLink1URL: https://www.yageo.com/upload/media/product/productsearch/datasheet/rchip/PYu-RC_Group_51_RoHS_L_11.pdf; ComponentLink2Description: Distributor; ComponentLink2URL: https://www.digikey.com/en/products/detail/yageo/RC0603FR-072K7L/727032; ComponentLink3Description: Manufacturer; ComponentLink3URL: https://www.yageo.com/en/ProductSearch/PartNumberSearch?part_number=RC0603FR-072K7L; Status: Not Checked; Power Rating: 100mW; Tolerance: ±1%; DB Parameter 1: 2k7; DB Parameter 2: ±1%; DB Parameter 3: 100mW
footprint R0603L 0.45MM MS (Chip Resistor, Body 1.6x0.8mm, IPC High Density)
pins: 1, 2

## Res 2k49 1% 0.75W 1206 MS
designator R?, comment Resistance: 2k49  (hidden comment: Resistor)
Resistor 2k49 1% 0.75W 1206; Manufacturer: Vishay Dale; Manufacturer Part Number: CRCW12062K49FKEAHP; Temperature Coefficient: ±100ppm/°C; Production Status: Active; Distributor: Digi-Key; Distributor Part Number: 541-2.49KUCT-ND; Last Revision Date: 17.06.2021; Temperature Range: -55°C ~ +155°C; Mounting: SMD; ComponentLink1Description: Datasheet; ComponentLink1URL: https://www.vishay.com/docs/20043/crcwhpe3.pdf; ComponentLink2Description: Distributor; ComponentLink2URL: https://www.digikey.com/en/products/detail/vishay-dale/CRCW12062K49FKEAHP/2227790; ComponentLink3Description: Manufacturer; ComponentLink3URL: https://www.vishay.com/docs/20043/crcwhpe3.pdf; Status: Not Checked; Power Rating: 0.75W; Tolerance: ±1%; DB Parameter 1: 2k49; DB Parameter 2: ±1%; DB Parameter 3: 0.75W
footprint 1206 R 0.6mm MS (Ceramic Capacitor 1206 0.55mm)
pins: 1, 2

## Res 2k 1% 2W 2512 MS
designator R?, comment Resistance: 2k  (hidden comment: Resistor)
Resistor 2k 1% 2W 2512 MS; Manufacturer: TE Connectivity / Holsworthy; Manufacturer Part Number: 35212K0FT; Temperature Coefficient: ±100ppm/°C; Production Status: Active; Distributor: Mouser; Distributor Part Number: 279-35212K0FT; Last Revision Date: 28.06.2023; Temperature Range: -55°C ~ +155°C; Mounting: SMD; ComponentLink1Description: Datasheet; ComponentLink1URL: https://www.te.com/usa-en/product-5-2176070-6.html; ComponentLink2Description: Distributor; ComponentLink2URL: https://eu.mouser.com/ProductDetail/TE-Connectivity-Holsworthy/35212K0FT?qs=IXkKOuu5vnFoCcMIqznxug%3D%3D; ComponentLink3Description: Manufacturer; ComponentLink3URL: https://www.te.com/usa-en/product-5-2176070-6.html; Status: Not Checked; Power Rating: 2W; Tolerance: ±1%; DB Parameter 1: 2k; DB Parameter 2: ±1%; DB Parameter 3: 2W
footprint 2512 R 0.7mm MS
pins: 1, 2

## Res 3k3 1% 100mW 0603 MS
designator R?, comment Resistance: 3k3  (hidden comment: Resistor)
Resistor 3k3 1% 100mW 0603; Manufacturer: Yageo; Manufacturer Part Number: ERJ-3EKF3301V; Temperature Coefficient: ±100ppm/°C; Production Status: Active; Distributor: Digi-Key; Distributor Part Number: P3.30KHCT-ND; Last Revision Date: 30.09.2021; Temperature Range: -55°C ~ +155°C; Mounting: SMD; ComponentLink1Description: Datasheet; ComponentLink1URL: https://industrial.panasonic.com/cdbs/www-data/pdf/RDA0000/AOA0000C304.pdf; ComponentLink2Description: Distributor; ComponentLink2URL: https://www.digikey.com/en/products/detail/panasonic-electronic-components/ERJ-3EKF3301V/1746376; ComponentLink3Description: Manufacturer; ComponentLink3URL: https://na.industrial.panasonic.com/products/resistors/smd-chip-resistors/lineup/chip-resistors/series/57494/model/66671; Status: Not Checked; Power Rating: 100mW; Tolerance: ±1%; DB Parameter 1: 3k3; DB Parameter 2: ±1%; DB Parameter 3: 100mW
footprint R0603L 0.45MM MS (Chip Resistor, Body 1.6x0.8mm, IPC High Density)
pins: 1, 2

## Res 3k4 1% 100mW 0603 MS
designator R?, comment Resistance: 3k4  (hidden comment: Resistor)
Resistor 3k4 1% 100mW 0603; Manufacturer: Panasonic; Manufacturer Part Number: ERJ-3EKF3401V; Temperature Coefficient: ±100ppm/°C; Production Status: Active; Distributor: Mouser; Distributor Part Number: 667-ERJ-3EKF3401V; Last Revision Date: 16.11.2021; Temperature Range: -55°C ~ +155°C; Mounting: SMD; ComponentLink1Description: Datasheet; ComponentLink1URL: https://eu.mouser.com/datasheet/2/315/AOA0000C304-1149620.pdf; ComponentLink2Description: Distributor; ComponentLink2URL: https://eu.mouser.com/ProductDetail/Panasonic/ERJ-3EKF3401V?qs=%2Fha2pyFaduhBCYRheXPo4wEmyz%2FTR4Xhc2dy1TllTUKkTkPzOPr4IA%3D%3D; ComponentLink3Description: Manufacturer; ComponentLink3URL: https://na.industrial.panasonic.com/products/resistors/smd-chip-resistors/lineup/chip-resistors/series/57494/model/66681; Status: Not Checked; Power Rating: 100mW; Tolerance: ±1%; DB Parameter 1: 3k4; DB Parameter 2: ±1%; DB Parameter 3: 100mW
footprint R0603L 0.45MM MS (Chip Resistor, Body 1.6x0.8mm, IPC High Density)
pins: 1, 2

## Res 3k6 1% 100mW 0603 MS
designator R?, comment Resistance: 3k6  (hidden comment: Resistor)
Resistor 3k6 1% 100mW 0603; Manufacturer: Vishay Dale; Manufacturer Part Number: CRCW06033K60FKEAC; Temperature Coefficient: ±100 PPM/°C; Production Status: Active; Distributor: Digi-Key; Distributor Part Number: 541-5394-1-ND; Last Revision Date: 02.07.2021; Temperature Range: -55°C ~ +155°C; Mounting: SMD; ComponentLink1Description: Datasheet; ComponentLink1URL: https://www.vishay.com/docs/28773/crcwce3.pdf; ComponentLink2Description: Distributor; ComponentLink2URL: https://www.digikey.com/en/products/detail/vishay-dale/CRCW06033K60FKEAC/7924204; ComponentLink3Description: Manufacturer; ComponentLink3URL: https://www.vishay.com/docs/28773/crcwce3.pdf; Status: Not Checked; Power Rating: 100mW; Tolerance: ±1%; DB Parameter 1: 3k6; DB Parameter 2: 100mW; DB Parameter 3: ±1%
footprint R0603L 0.45MM MS (Chip Resistor, Body 1.6x0.8mm, IPC High Density)
pins: 1, 2

## Res 3k9 1% 100mW 0603 MS
designator R?, comment Resistance: 3k9  (hidden comment: Resistor)
Resistor 3k9 1% 100mW 0603; Manufacturer: Bourns; Manufacturer Part Number: CR0603-FX-3901ELF; Temperature Coefficient: ±100 PPM/°C; Production Status: Active; Distributor: Mouser; Distributor Part Number: 652-CR0603-FX3901ELF; Last Revision Date: 11.04.2022; Temperature Range: -55°C ~ +155°C; Mounting: SMD; ComponentLink1Description: Datasheet; ComponentLink1URL: https://eu.mouser.com/datasheet/2/54/cr-1858361.pdf; ComponentLink2Description: Distributor; ComponentLink2URL: https://eu.mouser.com/ProductDetail/Bourns/CR0603-FX-3901ELF?qs=CCIlxZRRv7iapEtdkf1gDw%3D%3D; ComponentLink3Description: Manufacturer; ComponentLink3URL: https://eu.mouser.com/datasheet/2/54/cr-1858361.pdf; Status: Not Checked; Power Rating: 100mW; Tolerance: ±1%; DB Parameter 1: 3k9; DB Parameter 2: 100mW; DB Parameter 3: ±1%
footprint R0603L 0.45MM MS (Chip Resistor, Body 1.6x0.8mm, IPC High Density)
pins: 1, 2

## Res 3M 1% 100mW 0603 MS
designator R?, comment Resistance: 3M  (hidden comment: Resistor)
Resistor 3M 1% 100mW 0603; Manufacturer: YAGEO; Manufacturer Part Number: RC0603FR-073ML; Temperature Coefficient: ±100ppm/°C; Production Status: Active; Distributor: Mouser; Distributor Part Number: 603-RC0603FR-073ML; Last Revision Date: 16.08.2022; Temperature Range: -55°C ~ +155°C; Mounting: SMD; ComponentLink1Description: Datasheet; ComponentLink1URL: https://eu.mouser.com/datasheet/2/447/PYu_RC_Group_51_RoHS_L_11-1984063.pdf; ComponentLink2Description: Distributor; ComponentLink2URL: https://eu.mouser.com/ProductDetail/YAGEO/RC0603FR-073ML?qs=0yPvnVz5%2FmoE%252BprhggKQOw%3D%3D; ComponentLink3Description: Manufacturer; ComponentLink3URL: https://www.yageo.com/en/ProductSearch/PartNumberSearch?part_number=RC0603FR-073ML; Status: Not Checked; Power Rating: 100mW; Tolerance: ±1%; DB Parameter 1: 3M; DB Parameter 2: ±1%; DB Parameter 3: 100mW
footprint R0603L 0.45MM MS (Chip Resistor, Body 1.6x0.8mm, IPC High Density)
pins: 1, 2

## Res 4k7 1% 100mW 0603
designator R?, comment Resistance: 4k7  (hidden comment: Resistor)
Resistor 4k7 1% 100mW 0603; Manufacturer: Yageo; Manufacturer Part Number: RE0603FRE074K7L; Temperature Coefficient: ±50ppm/°C; Production Status: Active; Distributor: Digi-Key; Distributor Part Number: 13-RE0603FRE074K7LCT-ND; Last Revision Date: 19.10.2020.; Temperature Range: -55°C ~ +155°C; Mounting: SMD; ComponentLink1Description: Datasheet; ComponentLink1URL: https://www.yageo.com/upload/media/product/productsearch/datasheet/rchip/PYu-RE_105_RoHS_L_6.pdf; ComponentLink2Description: Distributor; ComponentLink2URL: https://www.digikey.com/en/products/detail/yageo/RE0603FRE074K7L/12708232; ComponentLink3Description: Manufacturer; ComponentLink3URL: https://www.yageo.com/en/ProductSearch/PartNumberSearch?part_number=RE0603FRE074K7L; Status: Not Checked; Power Rating: 100mW; Tolerance: ±1%; DB Parameter 1: 4k7; DB Parameter 2: ±1%; DB Parameter 3: 100mW
footprint R0603L 0.45MM MS (Chip Resistor, Body 1.6x0.8mm, IPC High Density)
pins: 1, 2

## Res 4k7 1% 100mW 0603 MS Pt02
designator R?, comment Resistance: 4k7  (hidden comment: Resistor)
Resistor 4k7 1% 100mW 0603; Manufacturer: Stackpole Electronics Inc; Manufacturer Part Number: RMCF0603FT4K70; Temperature Coefficient: ±100ppm/°C; Production Status: Active; Distributor: Digi-Key; Distributor Part Number: RMCF0603FT4K70CT-ND; Last Revision Date: 30.07.2021; Temperature Range: -55°C ~ +155°C; Mounting: SMD; ComponentLink1Description: Datasheet; ComponentLink1URL: https://www.seielect.com/catalog/sei-rmcf_rmcp.pdf; ComponentLink2Description: Distributor; ComponentLink2URL: https://www.digikey.com/en/products/detail/stackpole-electronics-inc/RMCF0603FT4K70/1760998; ComponentLink3Description: Manufacturer; ComponentLink3URL: https://www.seielect.com/catalog/sei-rmcf_rmcp.pdf; Status: Not Checked; Power Rating: 100mW; Tolerance: ±1%; DB Parameter 1: 4k7; DB Parameter 2: ±1%; DB Parameter 3: 100mW
footprint R0603L 0.45MM MS (Chip Resistor, Body 1.6x0.8mm, IPC High Density)
pins: 1, 2

## Res 4k7 1% 500mW 1206 MS
designator R?, comment Resistance: 4k7  (hidden comment: Resistor)
Resistor 4k7 1% 500mW 1206; Manufacturer: ROHM Semiconductor; Manufacturer Part Number: ESR18EZPF4701; Power Rating: 0.5W; Temperature Coefficient: ±100ppm/°C; Production Status: Active; Distributor: Mouser; Distributor Part Number: 755-ESR18EZPF4701; Last Revision Date: 14.04.2021; Temperature Range: -55°C ~ +155°C; Mounting: SMD; ComponentLink1Description: Datasheet; ComponentLink1URL: https://fscdn.rohm.com/en/products/databook/datasheet/passive/resistor/chip_resistor/esr-e.pdf; ComponentLink2Description: Distributor; ComponentLink2URL: https://eu.mouser.com/ProductDetail/ROHM-Semiconductor/ESR18EZPF4701?qs=493kPxzlxfJzsJ3TN8xCHw%3D%3D; ComponentLink3Description: Manufacturer; ComponentLink3URL: https://fscdn.rohm.com/en/products/databook/datasheet/passive/resistor/chip_resistor/esr-e.pdf; Status: Not Checked; Tolerance: ±1%; DB Parameter 1: 4k7; DB Parameter 2: ±1%; DB Parameter 3: 0.5W
footprint 1206 R 0.6mm MS (Ceramic Capacitor 1206 0.55mm)
pins: 1, 2

## Res 4k87 1% 100mW 0603 MS
designator R?, comment Resistance: 4k87  (hidden comment: Resistor)
Resistor 4k87 1% 100mW 0603; Manufacturer: YAGEO; Manufacturer Part Number: RC0603FR-074K87L; Temperature Coefficient: ±100ppm/°C; Production Status: Active; Distributor: Digi-Key; Distributor Part Number: 311-4.87KHRCT-ND; Last Revision Date: 09.08.2021; Temperature Range: -55°C ~ +155°C; Mounting: SMD; ComponentLink1Description: Datasheet; ComponentLink1URL: https://www.yageo.com/upload/media/product/productsearch/datasheet/rchip/PYu-RC_Group_51_RoHS_L_11.pdf; ComponentLink2Description: Distributor; ComponentLink2URL: https://www.digikey.com/en/products/detail/yageo/RC0603FR-074K87L/727217; ComponentLink3Description: Manufacturer; ComponentLink3URL: https://www.yageo.com/en/ProductSearch/PartNumberSearch?part_number=RC0603FR-074K87L; Status: Not Checked; Power Rating: 100mW; Tolerance: ±1%; DB Parameter 1: 4k87; DB Parameter 2: ±1%; DB Parameter 3: 100mW
footprint R0603L 0.45MM MS (Chip Resistor, Body 1.6x0.8mm, IPC High Density)
pins: 1, 2

## Res 4k99 1% 0.75W 1206 MS
designator R?, comment Resistance: 4k99  (hidden comment: Resistor)
Resistor 4k99 1% 0.75W 1206; Manufacturer: Vishay Dale; Manufacturer Part Number: CRCW12064K99FKEAHP; Temperature Coefficient: ±100ppm/°C; Production Status: Active; Distributor: Digi-Key; Distributor Part Number: 541-4.99KUCT-ND; Last Revision Date: 17.06.2021; Temperature Range: -55°C ~ +155°C; Mounting: SMD; ComponentLink1Description: Datasheet; ComponentLink1URL: https://www.vishay.com/docs/20043/crcwhpe3.pdf; ComponentLink2Description: Distributor; ComponentLink2URL: https://www.digikey.com/en/products/detail/vishay-dale/CRCW12064K99FKEAHP/2222444; ComponentLink3Description: Manufacturer; ComponentLink3URL: https://www.vishay.com/docs/20043/crcwhpe3.pdf; Status: Not Checked; Power Rating: 0.75W; Tolerance: ±1%; DB Parameter 1: 4k99; DB Parameter 2: ±1%; DB Parameter 3: 0.75W
footprint 1206 R 0.6mm MS (Ceramic Capacitor 1206 0.55mm)
pins: 1, 2

## Res 4k99 1% 100mW 0603 MS
designator R?, comment Resistance: 4k99  (hidden comment: Resistor)
Resistor 4k99 1% 100mW 0603; Manufacturer: Stackpole Electronics Inc; Manufacturer Part Number: RMCF0603FT4K99; Temperature Coefficient: ±10ppm/°C; Production Status: Active; Distributor: Digi-Key; Distributor Part Number: RMCF0603FT4K99CT-ND; Last Revision Date: 24.08.2021; Temperature Range: -55°C ~ +155°C; Mounting: SMD; ComponentLink1Description: Datasheet; ComponentLink1URL: https://www.seielect.com/catalog/sei-rmcf_rmcp.pdf; ComponentLink2Description: Distributor; ComponentLink2URL: https://www.digikey.com/en/products/detail/stackpole-electronics-inc/RMCF0603FT4K99/1761322; ComponentLink3Description: Manufacturer; ComponentLink3URL: https://www.seielect.com/catalog/sei-rmcf_rmcp.pdf; Status: Not Checked; Power Rating: 100mW; Tolerance: ±1%; DB Parameter 1: 4k99; DB Parameter 2: ±1%; DB Parameter 3: 100mW
footprint R0603L 0.45MM MS (Chip Resistor, Body 1.6x0.8mm, IPC High Density)
pins: 1, 2